# Altium integrated library TI Microcontroller MSP430 16-bit Ultra-Low Power.IntLib: 1463 symbols (part 23 of 130)
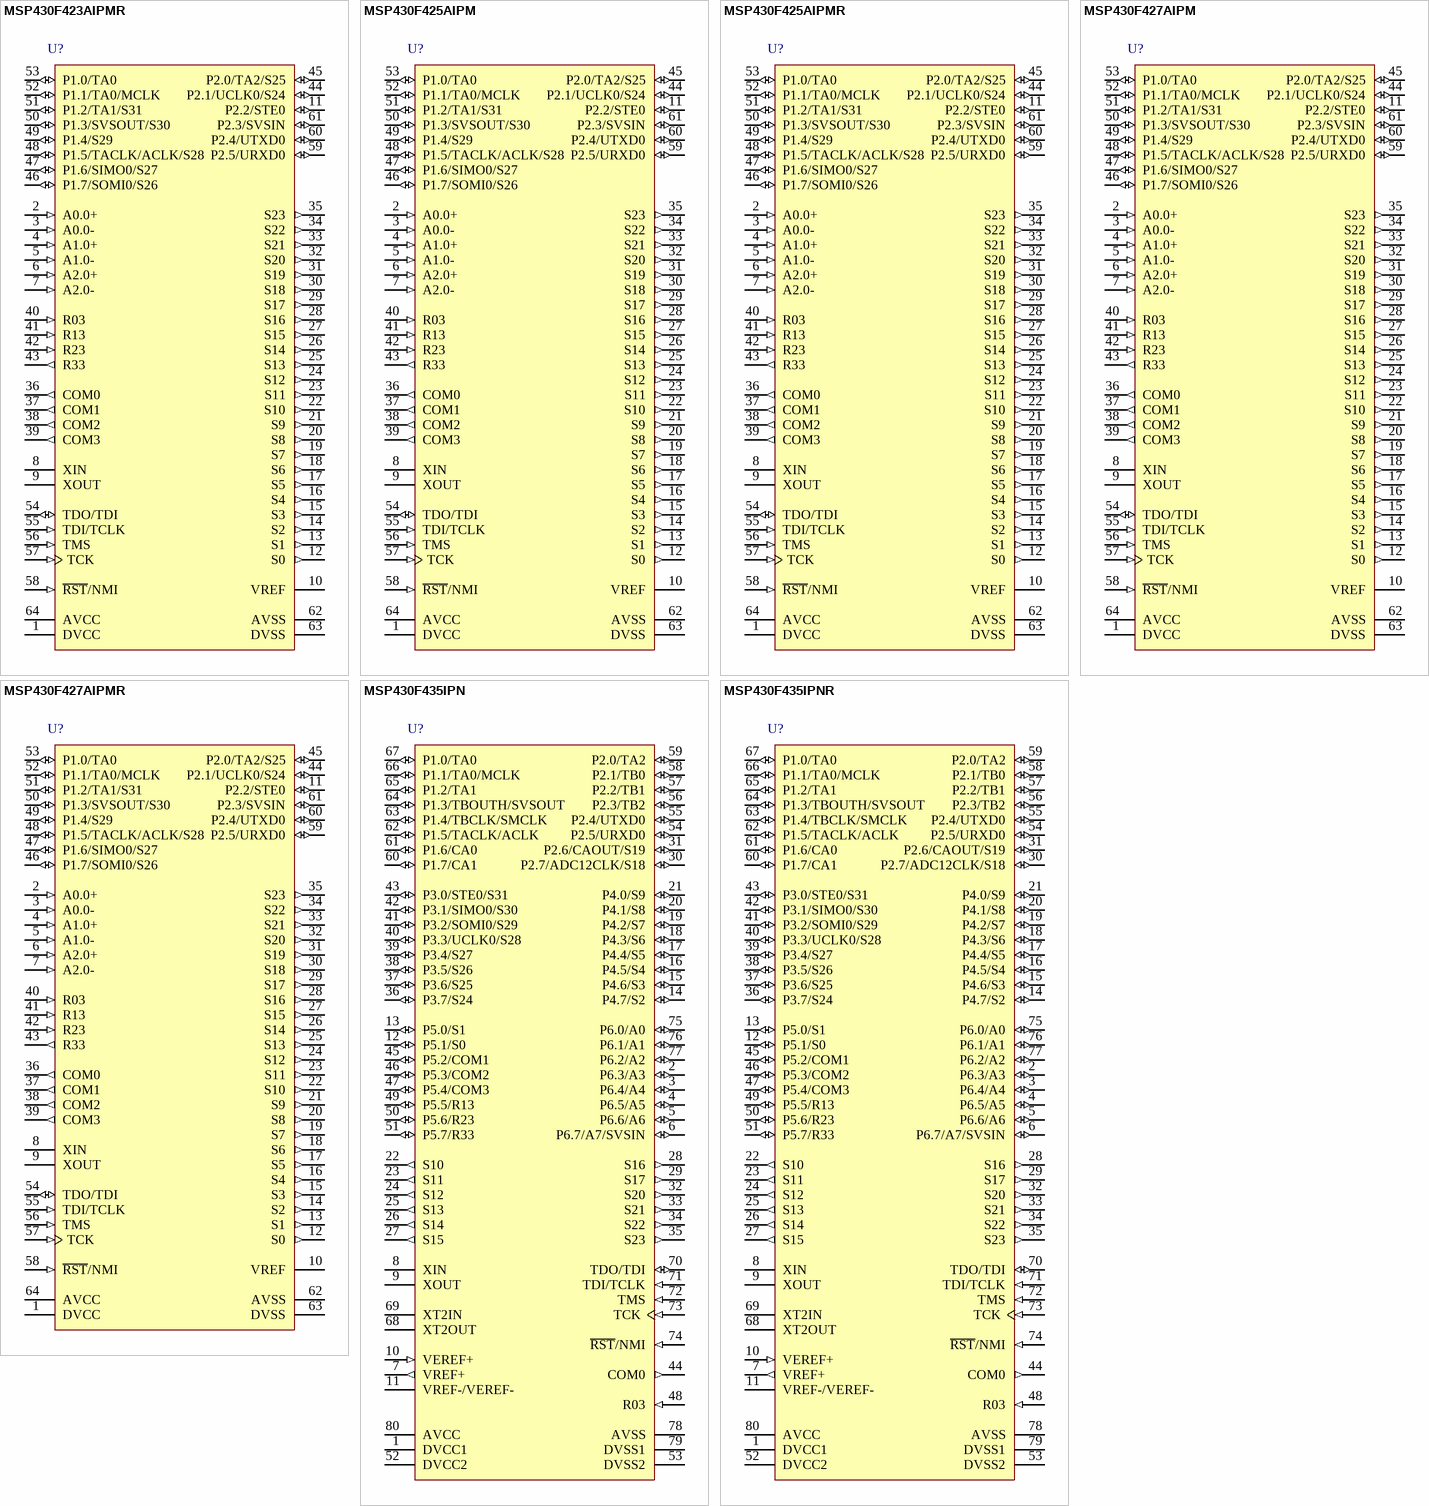
[diagram p248: symbols MSP430F423AIPMR to MSP430F435IPNR]

## MSP430F423AIPMR
designator U?
8 MHz Mixed Signal Microcontroller with 8 KB Flash, 256 B SRAM and 14 GPIOs, -40 to 85 degC, 64-pin QFP (PM), Green (RoHS & no Sb/Br); Manufacturer: Texas Instruments; PartNumber: MSP430F423AIPMR; ADC: 16-bit Sigma Delta; Brown Out Reset: Yes; Flash(KB): 8; GPIO: 14; LCD Segments: 128; Multiplier: 16x16; SRAM(B): 256; SubFamily: 4 Series with LCD; Timers - 16-bit: 1; DatasheetVersion: SLAS587; PackageVersion: 4040152/C; PackageReference: PM64; PackageDescription: 64-Pin Plastic Quad Flat Pack, Body 10 x 10 mm, Pitch 0.5 mm; Supplier 1: Digi-Key; Supplier Part Number 1: 296-32658-ND; Supplier 2: Farnell; Supplier Part Number 2: 1555268; Supplier 3: Newark; Supplier Part Number 3: 84M9634; Supplier 4: Mouser; Supplier Part Number 4: 595-MSP430F423AIPM; Eco-Plan: Green (RoHS & no Sb/Br); Frequency(MHz): 8; SVS: Yes; Temp Sensor: Yes; Watchdog: Yes; Mounting Technology: Surface Mount; Code_JEDEC: MS-026; ComponentLink1Description: Manufacturer URL; ComponentLink1URL: http://www.ti.com/; ComponentLink2Description: Datasheet; ComponentLink2URL: http://www.ti.com/general/docs/lit/getliterature.tsp?genericPartNumber=MSP430F423A&fileType=pdf; ComponentLink3Description: Package Specification; ComponentLink3URL: http://www.ti.com/lit/ml/mtqf008a/mtqf008a.pdf
footprint TI-PM64_N (QFP, 64-Leads, Body 10x10mm, Pitch 0.5mm, IPC Medium Density)
pins: 1 DVCC (power) "Digital supply voltage, positive terminal.", 2 A0.0+ (in) "Internal connection to SD16 Channel 0, input 0 +.", 3 A0.0- (in) "Internal connection to SD16 Channel 0, input 0 -.", 4 A1.0+ (in) "Internal connection to SD16 Channel 1, input 0 +.", 5 A1.0- (in) "Internal connection to SD16 Channel 1, input 0 -.", 6 A2.0+ (in) "Internal connection to SD16 Channel 2, input 0 +.", 7 A2.0- (in) "Internal connection to SD16 Channel 2, input 0 -.", 8 XIN "Input port for crystal oscillator XT1. Standard or watch crystals can be connected.", 9 XOUT "Output terminal of crystal oscillator XT1", 10 VREF "Input for an external reference voltage / internal reference voltage output (can be used as mid-voltage)", 11 P2.2/STE0 (io), 12 S0 (out) "LCD segment output 0", 13 S1 (out) "LCD segment output 1", 14 S2 (out) "LCD segment output 2", 15 S3 (out) "LCD segment output 3", 16 S4 (out) "LCD segment output 4", 17 S5 (out) "LCD segment output 5", 18 S6 (out) "LCD segment output 6", 19 S7 (out) "LCD segment output 7", 20 S8 (out) "LCD segment output 8", 21 S9 (out) "LCD segment output 9", 22 S10 (out) "LCD segment output 10", 23 S11 (out) "LCD segment output 11", 24 S12 (out) "LCD segment output 12", 25 S13 (out) "LCD segment output 13", 26 S14 (out) "LCD segment output 14", 27 S15 (out) "LCD segment output 15", 28 S16 (out) "LCD segment output 16", 29 S17 (out) "LCD segment output 17", 30 S18 (out) "LCD segment output 18", 31 S19 (out) "LCD segment output 19", 32 S20 (out) "LCD segment output 20", 33 S21 (out) "LCD segment output 21", 34 S22 (out) "LCD segment output 22", 35 S23 (out) "LCD segment output 23", 36 COM0 (out) "Common output, COM0-3 are used for LCD backplanes.", 37 COM1 (out) "Common output, COM0-3 are used for LCD backplanes.", 38 COM2 (out) "Common output, COM0-3 are used for LCD backplanes.", 39 COM3 (out) "Common output, COM0-3 are used for LCD backplanes.", 40 R03 (in) "Input port of fourth positive (lowest) analog LCD level (V5)", 41 R13 (in) "Input port of third most positive analog LCD level (V4 or V3)", 42 R23 (in) "Input port of second most positive analog LCD level (V2)", 43 R33 (out) "Output port of most positive analog LCD level (V1)", 44 P2.1/UCLK0/S24 (io), 45 P2.0/TA2/S25 (io), 46 P1.7/SOMI0/S26 (io), 47 P1.6/SIMO0/S27 (io), 48 P1.5/TACLK/ACLK/S28 (io), 49 P1.4/S29 (io), 50 P1.3/SVSOUT/S30 (io), 51 P1.2/TA1/S31 (io), 52 P1.1/TA0/MCLK (io), 53 P1.0/TA0 (io), 54 TDO/TDI (io), 55 TDI/TCLK (in), 56 TMS (in) "Test mode select. TMS is used as an input port for device programming and test.", 57 TCK (in) "Test clock. TCK is the clock input port for device programming and test.", 58 ~{RST}/NMI (in), 59 P2.5/URXD0 (io), 60 P2.4/UTXD0 (io), 61 P2.3/SVSIN (io), 62 AVSS (power) "Analog supply voltage, negative terminal. Supplies SD16, SVS, brownout, oscillator, and LCD resistive divider circuitry.", 63 DVSS (power) "Digital supply voltage, negative terminal", 64 AVCC (power) "Analog supply voltage, positive terminal. Supplies SD16, SVS, brownout, oscillator, and LCD resistive divider circuitry; must not power up prior to DVCC."

## MSP430F425AIPM
designator U?
8 MHz Mixed Signal Microcontroller with 16 KB Flash, 512 B SRAM and 14 GPIOs, -40 to 85 degC, 64-pin QFP (PM), Green (RoHS & no Sb/Br); Manufacturer: Texas Instruments; PartNumber: MSP430F425AIPM; ADC: 16-bit Sigma Delta; Brown Out Reset: Yes; Flash(KB): 16; Frequency(MHz): 8; GPIO: 14; LCD Segments: 128; Multiplier: 16x16; SRAM(B): 512; SubFamily: 4 Series with LCD; Timers - 16-bit: 1; DatasheetVersion: SLAS587; PackageVersion: 4040152/C; PackageReference: PM64; PackageDescription: 64-Pin Plastic Quad Flat Pack, Body 10 x 10 mm, Pitch 0.5 mm; Supplier 1: Digi-Key; Supplier Part Number 1: 296-19264-2-ND; Supplier 2: Digi-Key; Supplier Part Number 2: 296-19264-1-ND; Supplier 3: Digi-Key; Supplier Part Number 3: 296-19264-6-ND; Supplier 4: Farnell; Supplier Part Number 4: 1649460; Supplier 5: Newark; Supplier Part Number 5: 15P0280; Supplier 6: Mouser; Supplier Part Number 6: 595-MSP430F4250IRGZT; Eco-Plan: Green (RoHS & no Sb/Br); SVS: Yes; Temp Sensor: Yes; Watchdog: Yes; Mounting Technology: Surface Mount; Code_JEDEC: MS-026; ComponentLink1Description: Manufacturer URL; ComponentLink1URL: http://www.ti.com/; ComponentLink2Description: Datasheet; ComponentLink2URL: http://www.ti.com/general/docs/lit/getliterature.tsp?genericPartNumber=MSP430F425A&fileType=pdf; ComponentLink3Description: Package Specification; ComponentLink3URL: http://www.ti.com/lit/ml/mtqf008a/mtqf008a.pdf
footprint TI-PM64_N (QFP, 64-Leads, Body 10x10mm, Pitch 0.5mm, IPC Medium Density)
pins: 1 DVCC (power) "Digital supply voltage, positive terminal.", 2 A0.0+ (in) "Internal connection to SD16 Channel 0, input 0 +.", 3 A0.0- (in) "Internal connection to SD16 Channel 0, input 0 -.", 4 A1.0+ (in) "Internal connection to SD16 Channel 1, input 0 +.", 5 A1.0- (in) "Internal connection to SD16 Channel 1, input 0 -.", 6 A2.0+ (in) "Internal connection to SD16 Channel 2, input 0 +.", 7 A2.0- (in) "Internal connection to SD16 Channel 2, input 0 -.", 8 XIN "Input port for crystal oscillator XT1. Standard or watch crystals can be connected.", 9 XOUT "Output terminal of crystal oscillator XT1", 10 VREF "Input for an external reference voltage / internal reference voltage output (can be used as mid-voltage)", 11 P2.2/STE0 (io), 12 S0 (out) "LCD segment output 0", 13 S1 (out) "LCD segment output 1", 14 S2 (out) "LCD segment output 2", 15 S3 (out) "LCD segment output 3", 16 S4 (out) "LCD segment output 4", 17 S5 (out) "LCD segment output 5", 18 S6 (out) "LCD segment output 6", 19 S7 (out) "LCD segment output 7", 20 S8 (out) "LCD segment output 8", 21 S9 (out) "LCD segment output 9", 22 S10 (out) "LCD segment output 10", 23 S11 (out) "LCD segment output 11", 24 S12 (out) "LCD segment output 12", 25 S13 (out) "LCD segment output 13", 26 S14 (out) "LCD segment output 14", 27 S15 (out) "LCD segment output 15", 28 S16 (out) "LCD segment output 16", 29 S17 (out) "LCD segment output 17", 30 S18 (out) "LCD segment output 18", 31 S19 (out) "LCD segment output 19", 32 S20 (out) "LCD segment output 20", 33 S21 (out) "LCD segment output 21", 34 S22 (out) "LCD segment output 22", 35 S23 (out) "LCD segment output 23", 36 COM0 (out) "Common output, COM0-3 are used for LCD backplanes.", 37 COM1 (out) "Common output, COM0-3 are used for LCD backplanes.", 38 COM2 (out) "Common output, COM0-3 are used for LCD backplanes.", 39 COM3 (out) "Common output, COM0-3 are used for LCD backplanes.", 40 R03 (in) "Input port of fourth positive (lowest) analog LCD level (V5)", 41 R13 (in) "Input port of third most positive analog LCD level (V4 or V3)", 42 R23 (in) "Input port of second most positive analog LCD level (V2)", 43 R33 (out) "Output port of most positive analog LCD level (V1)", 44 P2.1/UCLK0/S24 (io), 45 P2.0/TA2/S25 (io), 46 P1.7/SOMI0/S26 (io), 47 P1.6/SIMO0/S27 (io), 48 P1.5/TACLK/ACLK/S28 (io), 49 P1.4/S29 (io), 50 P1.3/SVSOUT/S30 (io), 51 P1.2/TA1/S31 (io), 52 P1.1/TA0/MCLK (io), 53 P1.0/TA0 (io), 54 TDO/TDI (io), 55 TDI/TCLK (in), 56 TMS (in) "Test mode select. TMS is used as an input port for device programming and test.", 57 TCK (in) "Test clock. TCK is the clock input port for device programming and test.", 58 ~{RST}/NMI (in), 59 P2.5/URXD0 (io), 60 P2.4/UTXD0 (io), 61 P2.3/SVSIN (io), 62 AVSS (power) "Analog supply voltage, negative terminal. Supplies SD16, SVS, brownout, oscillator, and LCD resistive divider circuitry.", 63 DVSS (power) "Digital supply voltage, negative terminal", 64 AVCC (power) "Analog supply voltage, positive terminal. Supplies SD16, SVS, brownout, oscillator, and LCD resistive divider circuitry; must not power up prior to DVCC."

## MSP430F425AIPMR
designator U?
8 MHz Mixed Signal Microcontroller with 16 KB Flash, 512 B SRAM and 14 GPIOs, -40 to 85 degC, 64-pin QFP (PM), Green (RoHS & no Sb/Br); Manufacturer: Texas Instruments; PartNumber: MSP430F425AIPMR; ADC: 16-bit Sigma Delta; Brown Out Reset: Yes; Flash(KB): 16; Frequency(MHz): 8; GPIO: 14; LCD Segments: 128; Multiplier: 16x16; SRAM(B): 512; SubFamily: 4 Series with LCD; Timers - 16-bit: 1; DatasheetVersion: SLAS587; PackageVersion: 4040152/C; PackageReference: PM64; PackageDescription: 64-Pin Plastic Quad Flat Pack, Body 10 x 10 mm, Pitch 0.5 mm; Supplier 1: Digi-Key; Supplier Part Number 1: 296-32659-ND; Supplier 2: Farnell; Supplier Part Number 2: 1555269; Supplier 3: Newark; Supplier Part Number 3: 84M9636; Supplier 4: Mouser; Supplier Part Number 4: 595-MSP430F425AIPM; Eco-Plan: Green (RoHS & no Sb/Br); SVS: Yes; Temp Sensor: Yes; Watchdog: Yes; Mounting Technology: Surface Mount; Code_JEDEC: MS-026; ComponentLink1Description: Manufacturer URL; ComponentLink1URL: http://www.ti.com/; ComponentLink2Description: Datasheet; ComponentLink2URL: http://www.ti.com/general/docs/lit/getliterature.tsp?genericPartNumber=MSP430F425A&fileType=pdf; ComponentLink3Description: Package Specification; ComponentLink3URL: http://www.ti.com/lit/ml/mtqf008a/mtqf008a.pdf
footprint TI-PM64_N (QFP, 64-Leads, Body 10x10mm, Pitch 0.5mm, IPC Medium Density)
pins: 1 DVCC (power) "Digital supply voltage, positive terminal.", 2 A0.0+ (in) "Internal connection to SD16 Channel 0, input 0 +.", 3 A0.0- (in) "Internal connection to SD16 Channel 0, input 0 -.", 4 A1.0+ (in) "Internal connection to SD16 Channel 1, input 0 +.", 5 A1.0- (in) "Internal connection to SD16 Channel 1, input 0 -.", 6 A2.0+ (in) "Internal connection to SD16 Channel 2, input 0 +.", 7 A2.0- (in) "Internal connection to SD16 Channel 2, input 0 -.", 8 XIN "Input port for crystal oscillator XT1. Standard or watch crystals can be connected.", 9 XOUT "Output terminal of crystal oscillator XT1", 10 VREF "Input for an external reference voltage / internal reference voltage output (can be used as mid-voltage)", 11 P2.2/STE0 (io), 12 S0 (out) "LCD segment output 0", 13 S1 (out) "LCD segment output 1", 14 S2 (out) "LCD segment output 2", 15 S3 (out) "LCD segment output 3", 16 S4 (out) "LCD segment output 4", 17 S5 (out) "LCD segment output 5", 18 S6 (out) "LCD segment output 6", 19 S7 (out) "LCD segment output 7", 20 S8 (out) "LCD segment output 8", 21 S9 (out) "LCD segment output 9", 22 S10 (out) "LCD segment output 10", 23 S11 (out) "LCD segment output 11", 24 S12 (out) "LCD segment output 12", 25 S13 (out) "LCD segment output 13", 26 S14 (out) "LCD segment output 14", 27 S15 (out) "LCD segment output 15", 28 S16 (out) "LCD segment output 16", 29 S17 (out) "LCD segment output 17", 30 S18 (out) "LCD segment output 18", 31 S19 (out) "LCD segment output 19", 32 S20 (out) "LCD segment output 20", 33 S21 (out) "LCD segment output 21", 34 S22 (out) "LCD segment output 22", 35 S23 (out) "LCD segment output 23", 36 COM0 (out) "Common output, COM0-3 are used for LCD backplanes.", 37 COM1 (out) "Common output, COM0-3 are used for LCD backplanes.", 38 COM2 (out) "Common output, COM0-3 are used for LCD backplanes.", 39 COM3 (out) "Common output, COM0-3 are used for LCD backplanes.", 40 R03 (in) "Input port of fourth positive (lowest) analog LCD level (V5)", 41 R13 (in) "Input port of third most positive analog LCD level (V4 or V3)", 42 R23 (in) "Input port of second most positive analog LCD level (V2)", 43 R33 (out) "Output port of most positive analog LCD level (V1)", 44 P2.1/UCLK0/S24 (io), 45 P2.0/TA2/S25 (io), 46 P1.7/SOMI0/S26 (io), 47 P1.6/SIMO0/S27 (io), 48 P1.5/TACLK/ACLK/S28 (io), 49 P1.4/S29 (io), 50 P1.3/SVSOUT/S30 (io), 51 P1.2/TA1/S31 (io), 52 P1.1/TA0/MCLK (io), 53 P1.0/TA0 (io), 54 TDO/TDI (io), 55 TDI/TCLK (in), 56 TMS (in) "Test mode select. TMS is used as an input port for device programming and test.", 57 TCK (in) "Test clock. TCK is the clock input port for device programming and test.", 58 ~{RST}/NMI (in), 59 P2.5/URXD0 (io), 60 P2.4/UTXD0 (io), 61 P2.3/SVSIN (io), 62 AVSS (power) "Analog supply voltage, negative terminal. Supplies SD16, SVS, brownout, oscillator, and LCD resistive divider circuitry.", 63 DVSS (power) "Digital supply voltage, negative terminal", 64 AVCC (power) "Analog supply voltage, positive terminal. Supplies SD16, SVS, brownout, oscillator, and LCD resistive divider circuitry; must not power up prior to DVCC."

## MSP430F427AIPM
designator U?
8 MHz Mixed Signal Microcontroller with 32 KB Flash, 1024 B SRAM and 14 GPIOs, -40 to 85 degC, 64-pin QFP (PM), Green (RoHS & no Sb/Br); Manufacturer: Texas Instruments; PartNumber: MSP430F427AIPM; ADC: 16-bit Sigma Delta; Brown Out Reset: Yes; Flash(KB): 32; Frequency(MHz): 8; GPIO: 14; LCD Segments: 128; Multiplier: 16x16; SRAM(B): 1024; SubFamily: 4 Series with LCD; Timers - 16-bit: 1; DatasheetVersion: SLAS587; PackageVersion: 4040152/C; PackageReference: PM64; PackageDescription: 64-Pin Plastic Quad Flat Pack, Body 10 x 10 mm, Pitch 0.5 mm; Supplier 1: Digi-Key; Supplier Part Number 1: 296-19679-2-ND; Supplier 2: Digi-Key; Supplier Part Number 2: 296-19679-1-ND; Supplier 3: Digi-Key; Supplier Part Number 3: 296-19679-6-ND; Supplier 4: Farnell; Supplier Part Number 4: 1537197; Supplier 5: Newark; Supplier Part Number 5: 57K1108; Supplier 6: Mouser; Supplier Part Number 6: 595-MSP430F4270IRGZT; Eco-Plan: Green (RoHS & no Sb/Br); SVS: Yes; Temp Sensor: Yes; Watchdog: Yes; Mounting Technology: Surface Mount; Code_JEDEC: MS-026; ComponentLink1Description: Manufacturer URL; ComponentLink1URL: http://www.ti.com/; ComponentLink2Description: Datasheet; ComponentLink2URL: http://www.ti.com/general/docs/lit/getliterature.tsp?genericPartNumber=MSP430F427A&fileType=pdf; ComponentLink3Description: Package Specification; ComponentLink3URL: http://www.ti.com/lit/ml/mtqf008a/mtqf008a.pdf
footprint TI-PM64_N (QFP, 64-Leads, Body 10x10mm, Pitch 0.5mm, IPC Medium Density)
pins: 1 DVCC (power) "Digital supply voltage, positive terminal.", 2 A0.0+ (in) "Internal connection to SD16 Channel 0, input 0 +.", 3 A0.0- (in) "Internal connection to SD16 Channel 0, input 0 -.", 4 A1.0+ (in) "Internal connection to SD16 Channel 1, input 0 +.", 5 A1.0- (in) "Internal connection to SD16 Channel 1, input 0 -.", 6 A2.0+ (in) "Internal connection to SD16 Channel 2, input 0 +.", 7 A2.0- (in) "Internal connection to SD16 Channel 2, input 0 -.", 8 XIN "Input port for crystal oscillator XT1. Standard or watch crystals can be connected.", 9 XOUT "Output terminal of crystal oscillator XT1", 10 VREF "Input for an external reference voltage / internal reference voltage output (can be used as mid-voltage)", 11 P2.2/STE0 (io), 12 S0 (out) "LCD segment output 0", 13 S1 (out) "LCD segment output 1", 14 S2 (out) "LCD segment output 2", 15 S3 (out) "LCD segment output 3", 16 S4 (out) "LCD segment output 4", 17 S5 (out) "LCD segment output 5", 18 S6 (out) "LCD segment output 6", 19 S7 (out) "LCD segment output 7", 20 S8 (out) "LCD segment output 8", 21 S9 (out) "LCD segment output 9", 22 S10 (out) "LCD segment output 10", 23 S11 (out) "LCD segment output 11", 24 S12 (out) "LCD segment output 12", 25 S13 (out) "LCD segment output 13", 26 S14 (out) "LCD segment output 14", 27 S15 (out) "LCD segment output 15", 28 S16 (out) "LCD segment output 16", 29 S17 (out) "LCD segment output 17", 30 S18 (out) "LCD segment output 18", 31 S19 (out) "LCD segment output 19", 32 S20 (out) "LCD segment output 20", 33 S21 (out) "LCD segment output 21", 34 S22 (out) "LCD segment output 22", 35 S23 (out) "LCD segment output 23", 36 COM0 (out) "Common output, COM0-3 are used for LCD backplanes.", 37 COM1 (out) "Common output, COM0-3 are used for LCD backplanes.", 38 COM2 (out) "Common output, COM0-3 are used for LCD backplanes.", 39 COM3 (out) "Common output, COM0-3 are used for LCD backplanes.", 40 R03 (in) "Input port of fourth positive (lowest) analog LCD level (V5)", 41 R13 (in) "Input port of third most positive analog LCD level (V4 or V3)", 42 R23 (in) "Input port of second most positive analog LCD level (V2)", 43 R33 (out) "Output port of most positive analog LCD level (V1)", 44 P2.1/UCLK0/S24 (io), 45 P2.0/TA2/S25 (io), 46 P1.7/SOMI0/S26 (io), 47 P1.6/SIMO0/S27 (io), 48 P1.5/TACLK/ACLK/S28 (io), 49 P1.4/S29 (io), 50 P1.3/SVSOUT/S30 (io), 51 P1.2/TA1/S31 (io), 52 P1.1/TA0/MCLK (io), 53 P1.0/TA0 (io), 54 TDO/TDI (io), 55 TDI/TCLK (in), 56 TMS (in) "Test mode select. TMS is used as an input port for device programming and test.", 57 TCK (in) "Test clock. TCK is the clock input port for device programming and test.", 58 ~{RST}/NMI (in), 59 P2.5/URXD0 (io), 60 P2.4/UTXD0 (io), 61 P2.3/SVSIN (io), 62 AVSS (power) "Analog supply voltage, negative terminal. Supplies SD16, SVS, brownout, oscillator, and LCD resistive divider circuitry.", 63 DVSS (power) "Digital supply voltage, negative terminal", 64 AVCC (power) "Analog supply voltage, positive terminal. Supplies SD16, SVS, brownout, oscillator, and LCD resistive divider circuitry; must not power up prior to DVCC."

## MSP430F427AIPMR
designator U?
8 MHz Mixed Signal Microcontroller with 32 KB Flash, 1024 B SRAM and 14 GPIOs, -40 to 85 degC, 64-pin QFP (PM), Green (RoHS & no Sb/Br); Manufacturer: Texas Instruments; PartNumber: MSP430F427AIPMR; ADC: 16-bit Sigma Delta; Brown Out Reset: Yes; Flash(KB): 32; Frequency(MHz): 8; GPIO: 14; LCD Segments: 128; Multiplier: 16x16; SRAM(B): 1024; SubFamily: 4 Series with LCD; Timers - 16-bit: 1; DatasheetVersion: SLAS587; PackageVersion: 4040152/C; PackageReference: PM64; PackageDescription: 64-Pin Plastic Quad Flat Pack, Body 10 x 10 mm, Pitch 0.5 mm; Supplier 1: Digi-Key; Supplier Part Number 1: 296-32660-ND; Supplier 2: Farnell; Supplier Part Number 2: 1903441; Supplier 3: Newark; Supplier Part Number 3: 84M9638; Supplier 4: Mouser; Supplier Part Number 4: 595-MSP430F427AIPM; Eco-Plan: Green (RoHS & no Sb/Br); SVS: Yes; Temp Sensor: Yes; Watchdog: Yes; Mounting Technology: Surface Mount; Code_JEDEC: MS-026; ComponentLink1Description: Manufacturer URL; ComponentLink1URL: http://www.ti.com/; ComponentLink2Description: Datasheet; ComponentLink2URL: http://www.ti.com/general/docs/lit/getliterature.tsp?genericPartNumber=MSP430F427A&fileType=pdf; ComponentLink3Description: Package Specification; ComponentLink3URL: http://www.ti.com/lit/ml/mtqf008a/mtqf008a.pdf
footprint TI-PM64_N (QFP, 64-Leads, Body 10x10mm, Pitch 0.5mm, IPC Medium Density)
pins: 1 DVCC (power) "Digital supply voltage, positive terminal.", 2 A0.0+ (in) "Internal connection to SD16 Channel 0, input 0 +.", 3 A0.0- (in) "Internal connection to SD16 Channel 0, input 0 -.", 4 A1.0+ (in) "Internal connection to SD16 Channel 1, input 0 +.", 5 A1.0- (in) "Internal connection to SD16 Channel 1, input 0 -.", 6 A2.0+ (in) "Internal connection to SD16 Channel 2, input 0 +.", 7 A2.0- (in) "Internal connection to SD16 Channel 2, input 0 -.", 8 XIN "Input port for crystal oscillator XT1. Standard or watch crystals can be connected.", 9 XOUT "Output terminal of crystal oscillator XT1", 10 VREF "Input for an external reference voltage / internal reference voltage output (can be used as mid-voltage)", 11 P2.2/STE0 (io), 12 S0 (out) "LCD segment output 0", 13 S1 (out) "LCD segment output 1", 14 S2 (out) "LCD segment output 2", 15 S3 (out) "LCD segment output 3", 16 S4 (out) "LCD segment output 4", 17 S5 (out) "LCD segment output 5", 18 S6 (out) "LCD segment output 6", 19 S7 (out) "LCD segment output 7", 20 S8 (out) "LCD segment output 8", 21 S9 (out) "LCD segment output 9", 22 S10 (out) "LCD segment output 10", 23 S11 (out) "LCD segment output 11", 24 S12 (out) "LCD segment output 12", 25 S13 (out) "LCD segment output 13", 26 S14 (out) "LCD segment output 14", 27 S15 (out) "LCD segment output 15", 28 S16 (out) "LCD segment output 16", 29 S17 (out) "LCD segment output 17", 30 S18 (out) "LCD segment output 18", 31 S19 (out) "LCD segment output 19", 32 S20 (out) "LCD segment output 20", 33 S21 (out) "LCD segment output 21", 34 S22 (out) "LCD segment output 22", 35 S23 (out) "LCD segment output 23", 36 COM0 (out) "Common output, COM0-3 are used for LCD backplanes.", 37 COM1 (out) "Common output, COM0-3 are used for LCD backplanes.", 38 COM2 (out) "Common output, COM0-3 are used for LCD backplanes.", 39 COM3 (out) "Common output, COM0-3 are used for LCD backplanes.", 40 R03 (in) "Input port of fourth positive (lowest) analog LCD level (V5)", 41 R13 (in) "Input port of third most positive analog LCD level (V4 or V3)", 42 R23 (in) "Input port of second most positive analog LCD level (V2)", 43 R33 (out) "Output port of most positive analog LCD level (V1)", 44 P2.1/UCLK0/S24 (io), 45 P2.0/TA2/S25 (io), 46 P1.7/SOMI0/S26 (io), 47 P1.6/SIMO0/S27 (io), 48 P1.5/TACLK/ACLK/S28 (io), 49 P1.4/S29 (io), 50 P1.3/SVSOUT/S30 (io), 51 P1.2/TA1/S31 (io), 52 P1.1/TA0/MCLK (io), 53 P1.0/TA0 (io), 54 TDO/TDI (io), 55 TDI/TCLK (in), 56 TMS (in) "Test mode select. TMS is used as an input port for device programming and test.", 57 TCK (in) "Test clock. TCK is the clock input port for device programming and test.", 58 ~{RST}/NMI (in), 59 P2.5/URXD0 (io), 60 P2.4/UTXD0 (io), 61 P2.3/SVSIN (io), 62 AVSS (power) "Analog supply voltage, negative terminal. Supplies SD16, SVS, brownout, oscillator, and LCD resistive divider circuitry.", 63 DVSS (power) "Digital supply voltage, negative terminal", 64 AVCC (power) "Analog supply voltage, positive terminal. Supplies SD16, SVS, brownout, oscillator, and LCD resistive divider circuitry; must not power up prior to DVCC."

## MSP430F435IPN
designator U?
8 MHz Mixed Signal Microcontroller with 16 KB Flash, 512 B SRAM and 48 GPIOs, -40 to 85 degC, 80-pin QFP (PN), Green (RoHS & no Sb/Br); Manufacturer: Texas Instruments; PartNumber: MSP430F435IPN; ADC: 12-bit SAR; Brown Out Reset: Yes; Flash(KB): 16; Frequency(MHz): 8; GPIO: 48; LCD Segments: 128, 160; SRAM(B): 1024; SubFamily: 4 Series with LCD; USART: 1; DatasheetVersion: SLAS344G; PackageReference: PN80; PackageDescription: 80-Pin Plastic Quad Flat Pack, Body 12 x 12 mm, Pitch 0.5 mm; Supplier 1: Digi-Key; Supplier Part Number 1: 296-22758-2-ND; Supplier 2: Digi-Key; Supplier Part Number 2: 296-22758-1-ND; Supplier 3: Farnell; Supplier Part Number 3: 1903443; Supplier 4: Mouser; Supplier Part Number 4: 595-MSP430F4351IPZR; Comparators: Yes; Eco-Plan: Green (RoHS & no Sb/Br); SVS: Yes; Watchdog: Yes; Mounting Technology: Surface Mount; Code_JEDEC: MS-018; ComponentLink1Description: Manufacturer URL; ComponentLink1URL: http://www.ti.com/; ComponentLink2Description: Datasheet; ComponentLink2URL: http://www.ti.com/general/docs/lit/getliterature.tsp?genericPartNumber=MSP430F435&fileType=pdf; ComponentLink3Description: Package Specification; ComponentLink3URL: http://www.ti.com/lit/ml/mtqf010a/mtqf010a.pdf
footprint TI-PN80_N (QFP, 80-Leads, Body 12x12mm, Pitch 0.5mm, IPC Medium Density)
pins: 1 DVCC1 (power) "Digital supply voltage, positive terminal.", 2 P6.3/A3 (io), 3 P6.4/A4 (io), 4 P6.5/A5 (io), 5 P6.6/A6 (io), 6 P6.7/A7/SVSIN (io), 7 VREF+ (out) "Output of positive terminal of the reference voltage in the ADC", 8 XIN "Input port for crystal oscillator XT1. Standard or watch crystals can be connected.", 9 XOUT "Output terminal of crystal oscillator XT1", 10 VEREF+ (in) "Input for an external reference voltage to the ADC", 11 VREF-/VEREF-, 12 P5.1/S0 (io), 13 P5.0/S1 (io), 14 P4.7/S2 (io), 15 P4.6/S3 (io), 16 P4.5/S4 (io), 17 P4.4/S5 (io), 18 P4.3/S6 (io), 19 P4.2/S7 (io), 20 P4.1/S8 (io), 21 P4.0/S9 (io), 22 S10 (out) "LCD segment output 10", 23 S11 (out) "LCD segment output 11", 24 S12 (out) "LCD segment output 12", 25 S13 (out) "LCD segment output 13", 26 S14 (out) "LCD segment output 14", 27 S15 (out) "LCD segment output 15", 28 S16 (out) "LCD segment output 16", 29 S17 (out) "LCD segment output 17", 30 P2.7/ADC12CLK/S18 (io), 31 P2.6/CAOUT/S19 (io), 32 S20 (out) "LCD segment output 20", 33 S21 (out) "LCD segment output 21", 34 S22 (out) "LCD segment output 22", 35 S23 (out) "LCD segment output 23", 36 P3.7/S24 (io), 37 P3.6/S25 (io), 38 P3.5/S26 (io), 39 P3.4/S27 (io), 40 P3.3/UCLK0/S28 (io), 41 P3.2/SOMI0/S29 (io), 42 P3.1/SIMO0/S30 (io), 43 P3.0/STE0/S31 (io), 44 COM0 (out) "COM0-3 are used for LCD backplanes.", 45 P5.2/COM1 (io), 46 P5.3/COM2 (io), 47 P5.4/COM3 (io), 48 R03 (in) "Input port of fourth positive (lowest) analog LCD level (V5)", 49 P5.5/R13 (io), 50 P5.6/R23 (io), 51 P5.7/R33 (io), 52 DVCC2 (power) "Digital supply voltage, positive terminal.", 53 DVSS2 (power) "Digital supply voltage, negative terminal.", 54 P2.5/URXD0 (io), 55 P2.4/UTXD0 (io), 56 P2.3/TB2 (io), 57 P2.2/TB1 (io), 58 P2.1/TB0 (io), 59 P2.0/TA2 (io), 60 P1.7/CA1 (io), 61 P1.6/CA0 (io), 62 P1.5/TACLK/ACLK (io), 63 P1.4/TBCLK/SMCLK (io), 64 P1.3/TBOUTH/SVSOUT (io), 65 P1.2/TA1 (io), 66 P1.1/TA0/MCLK (io), 67 P1.0/TA0 (io), 68 XT2OUT "Output terminal of crystal oscillator XT2", 69 XT2IN "Input port for crystal oscillator XT2. Only standard crystals can be connected.", 70 TDO/TDI (io), 71 TDI/TCLK (in), 72 TMS (in) "Test mode select. TMS is used as an input port for device programming and test.", 73 TCK (in) "Test clock. TCK is the clock input port for device programming and test.", 74 ~{RST}/NMI (in), 75 P6.0/A0 (io), 76 P6.1/A1 (io), 77 P6.2/A2 (io), 78 AVSS (power) "Analog supply voltage, negative terminal. Supplies SVS, brownout, oscillator, comparator_A, ADC12, port 1, and LCD resistive divider circuitry.", 79 DVSS1 (power) "Digital supply voltage, negative terminal.", 80 AVCC (power) "Analog supply voltage, positive terminal. Supplies SVS, brownout, oscillator, comparator_A, ADC12, port 1, and LCD resistive divider circuitry; must not power up prior to DVCC1/DVCC2."

## MSP430F435IPNR
designator U?
8 MHz Mixed Signal Microcontroller with 16 KB Flash, 512 B SRAM and 48 GPIOs, -40 to 85 degC, 80-pin QFP (PN), Green (RoHS & no Sb/Br); Manufacturer: Texas Instruments; PartNumber: MSP430F435IPNR; ADC: 12-bit SAR; Brown Out Reset: Yes; Flash(KB): 16; Frequency(MHz): 8; GPIO: 48; LCD Segments: 128, 160; SRAM(B): 1024; SubFamily: 4 Series with LCD; USART: 1; DatasheetVersion: SLAS344G; PackageReference: PN80; PackageDescription: 80-Pin Plastic Quad Flat Pack, Body 12 x 12 mm, Pitch 0.5 mm; Supplier 1: Digi-Key; Supplier Part Number 1: 296-13721-ND; Supplier 2: Farnell; Supplier Part Number 2: 1649461; Supplier 3: Newark; Supplier Part Number 3: 34K8188; Supplier 4: Mouser; Supplier Part Number 4: 595-430F435IPN; Comparators: Yes; Eco-Plan: Green (RoHS & no Sb/Br); SVS: Yes; Watchdog: Yes; Mounting Technology: Surface Mount; Code_JEDEC: MS-018; ComponentLink1Description: Manufacturer URL; ComponentLink1URL: http://www.ti.com/; ComponentLink2Description: Datasheet; ComponentLink2URL: http://www.ti.com/general/docs/lit/getliterature.tsp?genericPartNumber=MSP430F435&fileType=pdf; ComponentLink3Description: Package Specification; ComponentLink3URL: http://www.ti.com/lit/ml/mtqf010a/mtqf010a.pdf
footprint TI-PN80_N (QFP, 80-Leads, Body 12x12mm, Pitch 0.5mm, IPC Medium Density)
pins: 1 DVCC1 (power) "Digital supply voltage, positive terminal.", 2 P6.3/A3 (io), 3 P6.4/A4 (io), 4 P6.5/A5 (io), 5 P6.6/A6 (io), 6 P6.7/A7/SVSIN (io), 7 VREF+ (out) "Output of positive terminal of the reference voltage in the ADC", 8 XIN "Input port for crystal oscillator XT1. Standard or watch crystals can be connected.", 9 XOUT "Output terminal of crystal oscillator XT1", 10 VEREF+ (in) "Input for an external reference voltage to the ADC", 11 VREF-/VEREF-, 12 P5.1/S0 (io), 13 P5.0/S1 (io), 14 P4.7/S2 (io), 15 P4.6/S3 (io), 16 P4.5/S4 (io), 17 P4.4/S5 (io), 18 P4.3/S6 (io), 19 P4.2/S7 (io), 20 P4.1/S8 (io), 21 P4.0/S9 (io), 22 S10 (out) "LCD segment output 10", 23 S11 (out) "LCD segment output 11", 24 S12 (out) "LCD segment output 12", 25 S13 (out) "LCD segment output 13", 26 S14 (out) "LCD segment output 14", 27 S15 (out) "LCD segment output 15", 28 S16 (out) "LCD segment output 16", 29 S17 (out) "LCD segment output 17", 30 P2.7/ADC12CLK/S18 (io), 31 P2.6/CAOUT/S19 (io), 32 S20 (out) "LCD segment output 20", 33 S21 (out) "LCD segment output 21", 34 S22 (out) "LCD segment output 22", 35 S23 (out) "LCD segment output 23", 36 P3.7/S24 (io), 37 P3.6/S25 (io), 38 P3.5/S26 (io), 39 P3.4/S27 (io), 40 P3.3/UCLK0/S28 (io), 41 P3.2/SOMI0/S29 (io), 42 P3.1/SIMO0/S30 (io), 43 P3.0/STE0/S31 (io), 44 COM0 (out) "COM0-3 are used for LCD backplanes.", 45 P5.2/COM1 (io), 46 P5.3/COM2 (io), 47 P5.4/COM3 (io), 48 R03 (in) "Input port of fourth positive (lowest) analog LCD level (V5)", 49 P5.5/R13 (io), 50 P5.6/R23 (io), 51 P5.7/R33 (io), 52 DVCC2 (power) "Digital supply voltage, positive terminal.", 53 DVSS2 (power) "Digital supply voltage, negative terminal.", 54 P2.5/URXD0 (io), 55 P2.4/UTXD0 (io), 56 P2.3/TB2 (io), 57 P2.2/TB1 (io), 58 P2.1/TB0 (io), 59 P2.0/TA2 (io), 60 P1.7/CA1 (io), 61 P1.6/CA0 (io), 62 P1.5/TACLK/ACLK (io), 63 P1.4/TBCLK/SMCLK (io), 64 P1.3/TBOUTH/SVSOUT (io), 65 P1.2/TA1 (io), 66 P1.1/TA0/MCLK (io), 67 P1.0/TA0 (io), 68 XT2OUT "Output terminal of crystal oscillator XT2", 69 XT2IN "Input port for crystal oscillator XT2. Only standard crystals can be connected.", 70 TDO/TDI (io), 71 TDI/TCLK (in), 72 TMS (in) "Test mode select. TMS is used as an input port for device programming and test.", 73 TCK (in) "Test clock. TCK is the clock input port for device programming and test.", 74 ~{RST}/NMI (in), 75 P6.0/A0 (io), 76 P6.1/A1 (io), 77 P6.2/A2 (io), 78 AVSS (power) "Analog supply voltage, negative terminal. Supplies SVS, brownout, oscillator, comparator_A, ADC12, port 1, and LCD resistive divider circuitry.", 79 DVSS1 (power) "Digital supply voltage, negative terminal.", 80 AVCC (power) "Analog supply voltage, positive terminal. Supplies SVS, brownout, oscillator, comparator_A, ADC12, port 1, and LCD resistive divider circuitry; must not power up prior to DVCC1/DVCC2."

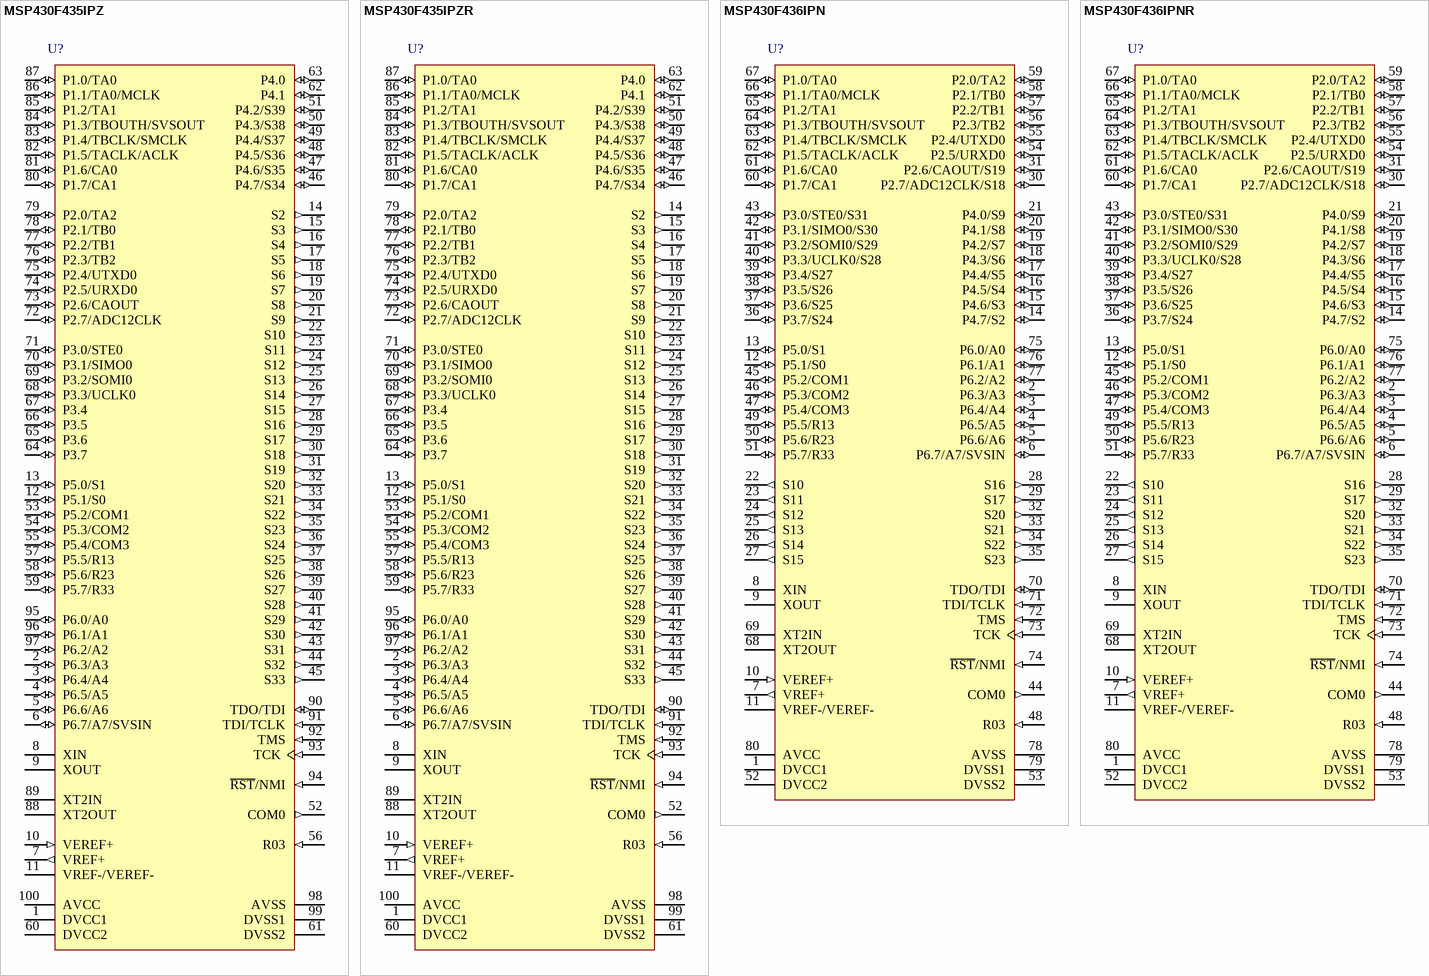
[diagram p34: symbols MSP430F435IPZ to MSP430F436IPNR]

## MSP430F435IPZ
designator U?
8 MHz Mixed Signal Microcontroller with 16 KB Flash, 512 B SRAM and 48 GPIOs, -40 to 85 degC, 100-pin QFP (PZ), Green (RoHS & no Sb/Br); Manufacturer: Texas Instruments; PartNumber: MSP430F435IPZ; ADC: 12-bit SAR; Brown Out Reset: Yes; Flash(KB): 16; Frequency(MHz): 8; GPIO: 48; LCD Segments: 128, 160; SRAM(B): 1024; SubFamily: 4 Series with LCD; USART: 1; DatasheetVersion: SLAS344G; PackageVersion: 4040149/B; PackageReference: PZ100; PackageDescription: 100-Pin Plastic Flat Pack, Body 14 x 14 mm, Pitch 0.5 mm; Supplier 1: Digi-Key; Supplier Part Number 1: MSP430F435IPNR-ND; Supplier 2: Mouser; Supplier Part Number 2: 595-430F435IPNR; Comparators: Yes; Eco-Plan: Green (RoHS & no Sb/Br); SVS: Yes; Watchdog: Yes; Mounting Technology: Surface Mount; Code_JEDEC: MS-026; ComponentLink1Description: Manufacturer URL; ComponentLink1URL: http://www.ti.com/; ComponentLink2Description: Datasheet; ComponentLink2URL: http://www.ti.com/general/docs/lit/getliterature.tsp?genericPartNumber=MSP430F435&fileType=pdf; ComponentLink3Description: Package Specification; ComponentLink3URL: http://www.ti.com/lit/ml/mtqf013a/mtqf013a.pdf
footprint TI-PZ100_N (QFP, 100-Leads, Body 14x14mm, Pitch 0.5mm, IPC Medium Density)
pins: 1 DVCC1 (power) "Digital supply voltage, positive terminal.", 2 P6.3/A3 (io), 3 P6.4/A4 (io), 4 P6.5/A5 (io), 5 P6.6/A6 (io), 6 P6.7/A7/SVSIN (io), 7 VREF+ (out) "Output of positive terminal of the reference voltage in the ADC", 8 XIN "Input port for crystal oscillator XT1. Standard or watch crystals can be connected.", 9 XOUT "Output terminal of crystal oscillator XT1", 10 VEREF+ (in) "Input for an external reference voltage to the ADC", 11 VREF-/VEREF-, 12 P5.1/S0 (io), 13 P5.0/S1 (io), 14 S2 (out) "LCD segment output 2", 15 S3 (out) "LCD segment output 3", 16 S4 (out) "LCD segment output 4", 17 S5 (out) "LCD segment output 5", 18 S6 (out) "LCD segment output 6", 19 S7 (out) "LCD segment output 7", 20 S8 (out) "LCD segment output 8", 21 S9 (out) "LCD segment output 9", 22 S10 (out) "LCD segment output 10", 23 S11 (out) "LCD segment output 11", 24 S12 (out) "LCD segment output 12", 25 S13 (out) "LCD segment output 13", 26 S14 (out) "LCD segment output 14", 27 S15 (out) "LCD segment output 15", 28 S16 (out) "LCD segment output 16", 29 S17 (out) "LCD segment output 17", 30 S18 (out) "LCD segment output 18", 31 S19 (out) "LCD segment output 19", 32 S20 (out) "LCD segment output 20", 33 S21 (out) "LCD segment output 21", 34 S22 (out) "LCD segment output 22", 35 S23 (out) "LCD segment output 23", 36 S24 (out) "LCD segment output 24", 37 S25 (out) "LCD segment output 25", 38 S26 (out) "LCD segment output 26", 39 S27 (out) "LCD segment output 27", 40 S28 (out) "LCD segment output 28", 41 S29 (out) "LCD segment output 29", 42 S30 (out) "LCD segment output 30", 43 S31 (out) "LCD segment output 31", 44 S32 (out) "LCD segment output 32", 45 S33 (out) "LCD segment output 33", 46 P4.7/S34 (io), 47 P4.6/S35 (io), 48 P4.5/S36 (io), 49 P4.4/S37 (io), 50 P4.3/S38 (io), 51 P4.2/S39 (io), 52 COM0 (out) "COM0?3 are used for LCD backplanes.", 53 P5.2/COM1 (io), 54 P5.3/COM2 (io), 55 P5.4/COM3 (io), 56 R03 (in) "Input port of fourth positive (lowest) analog LCD level (V5)", 57 P5.5/R13 (io), 58 P5.6/R23 (io), 59 P5.7/R33 (io), 60 DVCC2 (power) "Digital supply voltage, positive terminal.", 61 DVSS2 (power) "Digital supply voltage, negative terminal.", 62 P4.1 (io) "General-purpose digital I/O", 63 P4.0 (io) "General-purpose digital I/O", 64 P3.7 (io) "General-purpose digital I/O", 65 P3.6 (io) "General-purpose digital I/O", 66 P3.5 (io) "General-purpose digital I/O", 67 P3.4 (io) "General-purpose digital I/O", 68 P3.3/UCLK0 (io), 69 P3.2/SOMI0 (io), 70 P3.1/SIMO0 (io), 71 P3.0/STE0 (io), 72 P2.7/ADC12CLK (io), 73 P2.6/CAOUT (io), 74 P2.5/URXD0 (io), 75 P2.4/UTXD0 (io), 76 P2.3/TB2 (io), 77 P2.2/TB1 (io), 78 P2.1/TB0 (io), 79 P2.0/TA2 (io), 80 P1.7/CA1 (io), 81 P1.6/CA0 (io), 82 P1.5/TACLK/ACLK (io), 83 P1.4/TBCLK/SMCLK (io), 84 P1.3/TBOUTH/SVSOUT (io), 85 P1.2/TA1 (io), 86 P1.1/TA0/MCLK (io), 87 P1.0/TA0 (io), 88 XT2OUT "Output terminal of crystal oscillator XT2", 89 XT2IN "Input port for crystal oscillator XT2. Only standard crystals can be connected.", 90 TDO/TDI (io), 91 TDI/TCLK (in), 92 TMS (in) "Test mode select. TMS is used as an input port for device programming and test.", 93 TCK (in) "Test clock. TCK is the clock input port for device programming and test.", 94 ~{RST}/NMI (in), 95 P6.0/A0 (io), 96 P6.1/A1 (io), 97 P6.2/A2 (io), 98 AVSS (power) "Analog supply voltage, negative terminal. Supplies SVS, brownout, oscillator, comparator_A, ADC12, port 1, and LCD resistive divider circuitry.", 99 DVSS1 (power) "Digital supply voltage, negative terminal.", 100 AVCC (power) "Analog supply voltage, positive terminal. Supplies SVS, brownout, oscillator, comparator_A, ADC12, port 1, and LCD resistive divider circuitry; must not power up prior to DVCC1/DVCC2."

## MSP430F435IPZR
designator U?
8 MHz Mixed Signal Microcontroller with 16 KB Flash, 512 B SRAM and 48 GPIOs, -40 to 85 degC, 100-pin QFP (PZ), Green (RoHS & no Sb/Br); Manufacturer: Texas Instruments; PartNumber: MSP430F435IPZR; ADC: 12-bit SAR; Brown Out Reset: Yes; Flash(KB): 16; Frequency(MHz): 8; GPIO: 48; LCD Segments: 128, 160; SRAM(B): 1024; SubFamily: 4 Series with LCD; USART: 1; DatasheetVersion: SLAS344G; PackageVersion: 4040149/B; PackageReference: PZ100; PackageDescription: 100-Pin Plastic Flat Pack, Body 14 x 14 mm, Pitch 0.5 mm; Supplier 1: Digi-Key; Supplier Part Number 1: 296-12635-ND; Supplier 2: Farnell; Supplier Part Number 2: 1537198; Supplier 3: Newark; Supplier Part Number 3: 34K8189; Supplier 4: Mouser; Supplier Part Number 4: 595-430F435IPZ; Comparators: Yes; Eco-Plan: Green (RoHS & no Sb/Br); SVS: Yes; Watchdog: Yes; Mounting Technology: Surface Mount; Code_JEDEC: MS-026; ComponentLink1Description: Manufacturer URL; ComponentLink1URL: http://www.ti.com/; ComponentLink2Description: Datasheet; ComponentLink2URL: http://www.ti.com/general/docs/lit/getliterature.tsp?genericPartNumber=MSP430F435&fileType=pdf; ComponentLink3Description: Package Specification; ComponentLink3URL: http://www.ti.com/lit/ml/mtqf013a/mtqf013a.pdf
footprint TI-PZ100_N (QFP, 100-Leads, Body 14x14mm, Pitch 0.5mm, IPC Medium Density)
pins: 1 DVCC1 (power) "Digital supply voltage, positive terminal.", 2 P6.3/A3 (io), 3 P6.4/A4 (io), 4 P6.5/A5 (io), 5 P6.6/A6 (io), 6 P6.7/A7/SVSIN (io), 7 VREF+ (out) "Output of positive terminal of the reference voltage in the ADC", 8 XIN "Input port for crystal oscillator XT1. Standard or watch crystals can be connected.", 9 XOUT "Output terminal of crystal oscillator XT1", 10 VEREF+ (in) "Input for an external reference voltage to the ADC", 11 VREF-/VEREF-, 12 P5.1/S0 (io), 13 P5.0/S1 (io), 14 S2 (out) "LCD segment output 2", 15 S3 (out) "LCD segment output 3", 16 S4 (out) "LCD segment output 4", 17 S5 (out) "LCD segment output 5", 18 S6 (out) "LCD segment output 6", 19 S7 (out) "LCD segment output 7", 20 S8 (out) "LCD segment output 8", 21 S9 (out) "LCD segment output 9", 22 S10 (out) "LCD segment output 10", 23 S11 (out) "LCD segment output 11", 24 S12 (out) "LCD segment output 12", 25 S13 (out) "LCD segment output 13", 26 S14 (out) "LCD segment output 14", 27 S15 (out) "LCD segment output 15", 28 S16 (out) "LCD segment output 16", 29 S17 (out) "LCD segment output 17", 30 S18 (out) "LCD segment output 18", 31 S19 (out) "LCD segment output 19", 32 S20 (out) "LCD segment output 20", 33 S21 (out) "LCD segment output 21", 34 S22 (out) "LCD segment output 22", 35 S23 (out) "LCD segment output 23", 36 S24 (out) "LCD segment output 24", 37 S25 (out) "LCD segment output 25", 38 S26 (out) "LCD segment output 26", 39 S27 (out) "LCD segment output 27", 40 S28 (out) "LCD segment output 28", 41 S29 (out) "LCD segment output 29", 42 S30 (out) "LCD segment output 30", 43 S31 (out) "LCD segment output 31", 44 S32 (out) "LCD segment output 32", 45 S33 (out) "LCD segment output 33", 46 P4.7/S34 (io), 47 P4.6/S35 (io), 48 P4.5/S36 (io), 49 P4.4/S37 (io), 50 P4.3/S38 (io), 51 P4.2/S39 (io), 52 COM0 (out) "COM0?3 are used for LCD backplanes.", 53 P5.2/COM1 (io), 54 P5.3/COM2 (io), 55 P5.4/COM3 (io), 56 R03 (in) "Input port of fourth positive (lowest) analog LCD level (V5)", 57 P5.5/R13 (io), 58 P5.6/R23 (io), 59 P5.7/R33 (io), 60 DVCC2 (power) "Digital supply voltage, positive terminal.", 61 DVSS2 (power) "Digital supply voltage, negative terminal.", 62 P4.1 (io) "General-purpose digital I/O", 63 P4.0 (io) "General-purpose digital I/O", 64 P3.7 (io) "General-purpose digital I/O", 65 P3.6 (io) "General-purpose digital I/O", 66 P3.5 (io) "General-purpose digital I/O", 67 P3.4 (io) "General-purpose digital I/O", 68 P3.3/UCLK0 (io), 69 P3.2/SOMI0 (io), 70 P3.1/SIMO0 (io), 71 P3.0/STE0 (io), 72 P2.7/ADC12CLK (io), 73 P2.6/CAOUT (io), 74 P2.5/URXD0 (io), 75 P2.4/UTXD0 (io), 76 P2.3/TB2 (io), 77 P2.2/TB1 (io), 78 P2.1/TB0 (io), 79 P2.0/TA2 (io), 80 P1.7/CA1 (io), 81 P1.6/CA0 (io), 82 P1.5/TACLK/ACLK (io), 83 P1.4/TBCLK/SMCLK (io), 84 P1.3/TBOUTH/SVSOUT (io), 85 P1.2/TA1 (io), 86 P1.1/TA0/MCLK (io), 87 P1.0/TA0 (io), 88 XT2OUT "Output terminal of crystal oscillator XT2", 89 XT2IN "Input port for crystal oscillator XT2. Only standard crystals can be connected.", 90 TDO/TDI (io), 91 TDI/TCLK (in), 92 TMS (in) "Test mode select. TMS is used as an input port for device programming and test.", 93 TCK (in) "Test clock. TCK is the clock input port for device programming and test.", 94 ~{RST}/NMI (in), 95 P6.0/A0 (io), 96 P6.1/A1 (io), 97 P6.2/A2 (io), 98 AVSS (power) "Analog supply voltage, negative terminal. Supplies SVS, brownout, oscillator, comparator_A, ADC12, port 1, and LCD resistive divider circuitry.", 99 DVSS1 (power) "Digital supply voltage, negative terminal.", 100 AVCC (power) "Analog supply voltage, positive terminal. Supplies SVS, brownout, oscillator, comparator_A, ADC12, port 1, and LCD resistive divider circuitry; must not power up prior to DVCC1/DVCC2."

## MSP430F436IPN
designator U?
8 MHz Mixed Signal Microcontroller with 24 KB Flash, 1024 B SRAM and 48 GPIOs, -40 to 85 degC, 80-pin QFP (PN), Green (RoHS & no Sb/Br); Manufacturer: Texas Instruments; PartNumber: MSP430F436IPN; ADC: 12-bit SAR; Brown Out Reset: Yes; Flash(KB): 24; Frequency(MHz): 8; GPIO: 48; LCD Segments: 128, 160; SRAM(B): 1024; SubFamily: 4 Series with LCD; Timers - 16-bit: 2; USART: 1; DatasheetVersion: SLAS344G; PackageReference: PN80; PackageDescription: 80-Pin Plastic Quad Flat Pack, Body 12 x 12 mm, Pitch 0.5 mm; Supplier 1: Digi-Key; Supplier Part Number 1: 296-22760-2-ND; Supplier 2: Digi-Key; Supplier Part Number 2: 296-22760-1-ND; Supplier 3: Mouser; Supplier Part Number 3: 595-MSP430F4361IPZR; Comparators: Yes; Eco-Plan: Green (RoHS & no Sb/Br); SVS: Yes; Watchdog: Yes; Mounting Technology: Surface Mount; Code_JEDEC: MS-018; ComponentLink1Description: Manufacturer URL; ComponentLink1URL: http://www.ti.com/; ComponentLink2Description: Datasheet; ComponentLink2URL: http://www.ti.com/general/docs/lit/getliterature.tsp?genericPartNumber=MSP430F436&fileType=pdf; ComponentLink3Description: Package Specification; ComponentLink3URL: http://www.ti.com/lit/ml/mtqf010a/mtqf010a.pdf
footprint TI-PN80_N (QFP, 80-Leads, Body 12x12mm, Pitch 0.5mm, IPC Medium Density)
pins: 1 DVCC1 (power) "Digital supply voltage, positive terminal.", 2 P6.3/A3 (io), 3 P6.4/A4 (io), 4 P6.5/A5 (io), 5 P6.6/A6 (io), 6 P6.7/A7/SVSIN (io), 7 VREF+ (out) "Output of positive terminal of the reference voltage in the ADC", 8 XIN "Input port for crystal oscillator XT1. Standard or watch crystals can be connected.", 9 XOUT "Output terminal of crystal oscillator XT1", 10 VEREF+ (in) "Input for an external reference voltage to the ADC", 11 VREF-/VEREF-, 12 P5.1/S0 (io), 13 P5.0/S1 (io), 14 P4.7/S2 (io), 15 P4.6/S3 (io), 16 P4.5/S4 (io), 17 P4.4/S5 (io), 18 P4.3/S6 (io), 19 P4.2/S7 (io), 20 P4.1/S8 (io), 21 P4.0/S9 (io), 22 S10 (out) "LCD segment output 10", 23 S11 (out) "LCD segment output 11", 24 S12 (out) "LCD segment output 12", 25 S13 (out) "LCD segment output 13", 26 S14 (out) "LCD segment output 14", 27 S15 (out) "LCD segment output 15", 28 S16 (out) "LCD segment output 16", 29 S17 (out) "LCD segment output 17", 30 P2.7/ADC12CLK/S18 (io), 31 P2.6/CAOUT/S19 (io), 32 S20 (out) "LCD segment output 20", 33 S21 (out) "LCD segment output 21", 34 S22 (out) "LCD segment output 22", 35 S23 (out) "LCD segment output 23", 36 P3.7/S24 (io), 37 P3.6/S25 (io), 38 P3.5/S26 (io), 39 P3.4/S27 (io), 40 P3.3/UCLK0/S28 (io), 41 P3.2/SOMI0/S29 (io), 42 P3.1/SIMO0/S30 (io), 43 P3.0/STE0/S31 (io), 44 COM0 (out) "COM0-3 are used for LCD backplanes.", 45 P5.2/COM1 (io), 46 P5.3/COM2 (io), 47 P5.4/COM3 (io), 48 R03 (in) "Input port of fourth positive (lowest) analog LCD level (V5)", 49 P5.5/R13 (io), 50 P5.6/R23 (io), 51 P5.7/R33 (io), 52 DVCC2 (power) "Digital supply voltage, positive terminal.", 53 DVSS2 (power) "Digital supply voltage, negative terminal.", 54 P2.5/URXD0 (io), 55 P2.4/UTXD0 (io), 56 P2.3/TB2 (io), 57 P2.2/TB1 (io), 58 P2.1/TB0 (io), 59 P2.0/TA2 (io), 60 P1.7/CA1 (io), 61 P1.6/CA0 (io), 62 P1.5/TACLK/ACLK (io), 63 P1.4/TBCLK/SMCLK (io), 64 P1.3/TBOUTH/SVSOUT (io), 65 P1.2/TA1 (io), 66 P1.1/TA0/MCLK (io), 67 P1.0/TA0 (io), 68 XT2OUT "Output terminal of crystal oscillator XT2", 69 XT2IN "Input port for crystal oscillator XT2. Only standard crystals can be connected.", 70 TDO/TDI (io), 71 TDI/TCLK (in), 72 TMS (in) "Test mode select. TMS is used as an input port for device programming and test.", 73 TCK (in) "Test clock. TCK is the clock input port for device programming and test.", 74 ~{RST}/NMI (in), 75 P6.0/A0 (io), 76 P6.1/A1 (io), 77 P6.2/A2 (io), 78 AVSS (power) "Analog supply voltage, negative terminal. Supplies SVS, brownout, oscillator, comparator_A, ADC12, port 1, and LCD resistive divider circuitry.", 79 DVSS1 (power) "Digital supply voltage, negative terminal.", 80 AVCC (power) "Analog supply voltage, positive terminal. Supplies SVS, brownout, oscillator, comparator_A, ADC12, port 1, and LCD resistive divider circuitry; must not power up prior to DVCC1/DVCC2."

## MSP430F436IPNR
designator U?
8 MHz Mixed Signal Microcontroller with 24 KB Flash, 1024 B SRAM and 48 GPIOs, -40 to 85 degC, 80-pin QFP (PN), Green (RoHS & no Sb/Br); Manufacturer: Texas Instruments; PartNumber: MSP430F436IPNR; ADC: 12-bit SAR; Brown Out Reset: Yes; Flash(KB): 24; Frequency(MHz): 8; GPIO: 48; LCD Segments: 128, 160; SRAM(B): 1024; SubFamily: 4 Series with LCD; Timers - 16-bit: 2; USART: 1; DatasheetVersion: SLAS344G; PackageReference: PN80; PackageDescription: 80-Pin Plastic Quad Flat Pack, Body 12 x 12 mm, Pitch 0.5 mm; Supplier 1: Digi-Key; Supplier Part Number 1: 296-13722-ND; Supplier 2: Farnell; Supplier Part Number 2: 1537200; Supplier 3: Newark; Supplier Part Number 3: 02E6703; Supplier 4: Mouser; Supplier Part Number 4: 595-430F436IPN; Comparators: Yes; Eco-Plan: Green (RoHS & no Sb/Br); SVS: Yes; Watchdog: Yes; Mounting Technology: Surface Mount; Code_JEDEC: MS-018; ComponentLink1Description: Manufacturer URL; ComponentLink1URL: http://www.ti.com/; ComponentLink2Description: Datasheet; ComponentLink2URL: http://www.ti.com/general/docs/lit/getliterature.tsp?genericPartNumber=MSP430F436&fileType=pdf; ComponentLink3Description: Package Specification; ComponentLink3URL: http://www.ti.com/lit/ml/mtqf010a/mtqf010a.pdf
footprint TI-PN80_N (QFP, 80-Leads, Body 12x12mm, Pitch 0.5mm, IPC Medium Density)
pins: 1 DVCC1 (power) "Digital supply voltage, positive terminal.", 2 P6.3/A3 (io), 3 P6.4/A4 (io), 4 P6.5/A5 (io), 5 P6.6/A6 (io), 6 P6.7/A7/SVSIN (io), 7 VREF+ (out) "Output of positive terminal of the reference voltage in the ADC", 8 XIN "Input port for crystal oscillator XT1. Standard or watch crystals can be connected.", 9 XOUT "Output terminal of crystal oscillator XT1", 10 VEREF+ (in) "Input for an external reference voltage to the ADC", 11 VREF-/VEREF-, 12 P5.1/S0 (io), 13 P5.0/S1 (io), 14 P4.7/S2 (io), 15 P4.6/S3 (io), 16 P4.5/S4 (io), 17 P4.4/S5 (io), 18 P4.3/S6 (io), 19 P4.2/S7 (io), 20 P4.1/S8 (io), 21 P4.0/S9 (io), 22 S10 (out) "LCD segment output 10", 23 S11 (out) "LCD segment output 11", 24 S12 (out) "LCD segment output 12", 25 S13 (out) "LCD segment output 13", 26 S14 (out) "LCD segment output 14", 27 S15 (out) "LCD segment output 15", 28 S16 (out) "LCD segment output 16", 29 S17 (out) "LCD segment output 17", 30 P2.7/ADC12CLK/S18 (io), 31 P2.6/CAOUT/S19 (io), 32 S20 (out) "LCD segment output 20", 33 S21 (out) "LCD segment output 21", 34 S22 (out) "LCD segment output 22", 35 S23 (out) "LCD segment output 23", 36 P3.7/S24 (io), 37 P3.6/S25 (io), 38 P3.5/S26 (io), 39 P3.4/S27 (io), 40 P3.3/UCLK0/S28 (io), 41 P3.2/SOMI0/S29 (io), 42 P3.1/SIMO0/S30 (io), 43 P3.0/STE0/S31 (io), 44 COM0 (out) "COM0-3 are used for LCD backplanes.", 45 P5.2/COM1 (io), 46 P5.3/COM2 (io), 47 P5.4/COM3 (io), 48 R03 (in) "Input port of fourth positive (lowest) analog LCD level (V5)", 49 P5.5/R13 (io), 50 P5.6/R23 (io), 51 P5.7/R33 (io), 52 DVCC2 (power) "Digital supply voltage, positive terminal.", 53 DVSS2 (power) "Digital supply voltage, negative terminal.", 54 P2.5/URXD0 (io), 55 P2.4/UTXD0 (io), 56 P2.3/TB2 (io), 57 P2.2/TB1 (io), 58 P2.1/TB0 (io), 59 P2.0/TA2 (io), 60 P1.7/CA1 (io), 61 P1.6/CA0 (io), 62 P1.5/TACLK/ACLK (io), 63 P1.4/TBCLK/SMCLK (io), 64 P1.3/TBOUTH/SVSOUT (io), 65 P1.2/TA1 (io), 66 P1.1/TA0/MCLK (io), 67 P1.0/TA0 (io), 68 XT2OUT "Output terminal of crystal oscillator XT2", 69 XT2IN "Input port for crystal oscillator XT2. Only standard crystals can be connected.", 70 TDO/TDI (io), 71 TDI/TCLK (in), 72 TMS (in) "Test mode select. TMS is used as an input port for device programming and test.", 73 TCK (in) "Test clock. TCK is the clock input port for device programming and test.", 74 ~{RST}/NMI (in), 75 P6.0/A0 (io), 76 P6.1/A1 (io), 77 P6.2/A2 (io), 78 AVSS (power) "Analog supply voltage, negative terminal. Supplies SVS, brownout, oscillator, comparator_A, ADC12, port 1, and LCD resistive divider circuitry.", 79 DVSS1 (power) "Digital supply voltage, negative terminal.", 80 AVCC (power) "Analog supply voltage, positive terminal. Supplies SVS, brownout, oscillator, comparator_A, ADC12, port 1, and LCD resistive divider circuitry; must not power up prior to DVCC1/DVCC2."

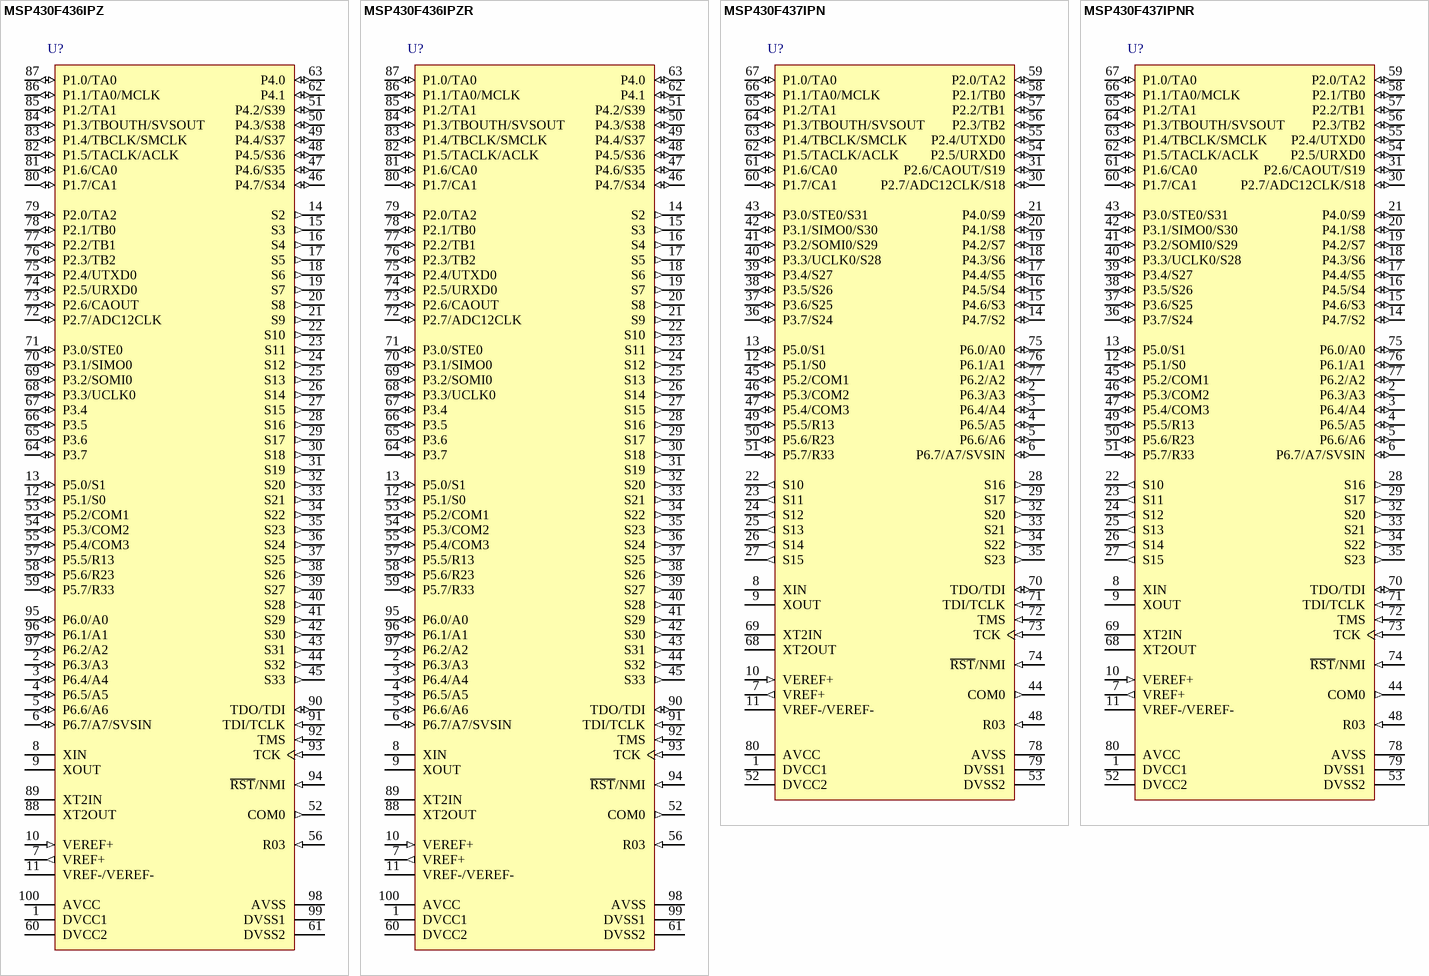
[diagram p35: symbols MSP430F436IPZ to MSP430F437IPNR]